# Altium footprint library PUSB3F96X.PcbLib: 1 footprints
Each footprint in its own frame and in the unit in brackets; x right, y up, seen from the top. Pads: shape width x height; smd on the part's side, far side on the other; paste and mask are expansions set on the pad; w line width, h text height; cw(c..) or ccw(c..) is an arc to the next point about the centre after c.
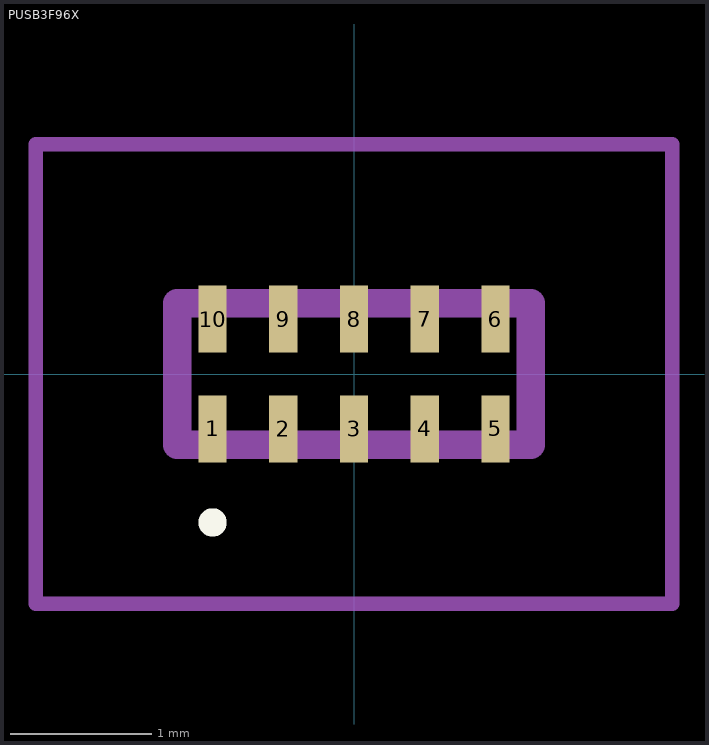
[diagram p0: the footprint, top view; thin cyan lines are the x and y axes]

## PUSB3F96X [mm]
pads (10):
  rect 0.2x0.475 smd: 1(-1,-0.388) 2(-0.5,-0.388) 3(0,-0.388) 4(0.5,-0.388) 5(1,-0.388) 6(1,0.388) 7(0.5,0.388) 8(0,0.388) 9(-0.5,0.388) 10(-1,0.388)
Top Overlay:
  lines w0.1: -1,-1.1 cw(c-1,-1.05) -1,-1 ; -1,-1.1 -1,-1.1 ; -1,-1.1 ccw(c-1,-1.05) -1,-1 ; -1,-1 -1,-1
Mechanical 15:
  lines w0.2: -1.25,-0.5 1.25,-0.5 1.25,0.5 -1.25,0.5 -1.25,-0.5
Mechanical 20:
  lines w0.1: -2.25,-1.625 2.25,-1.625 2.25,1.625 -2.25,1.625 -2.25,-1.625